# Altium schematic symbol library jumper.SchLib: 1 symbol
Pins are listed as number, name and electrical type; pins without a type are passive.

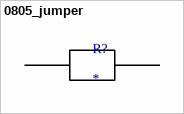
[diagram p0: symbol 0805_jumper]

## 0805_jumper
designator R?
footprint Resistor
pins: 31, 32